# Altium schematic symbol library pporyzala-TI_Lighting.SchLib: 745 symbols (part 2 of 48)
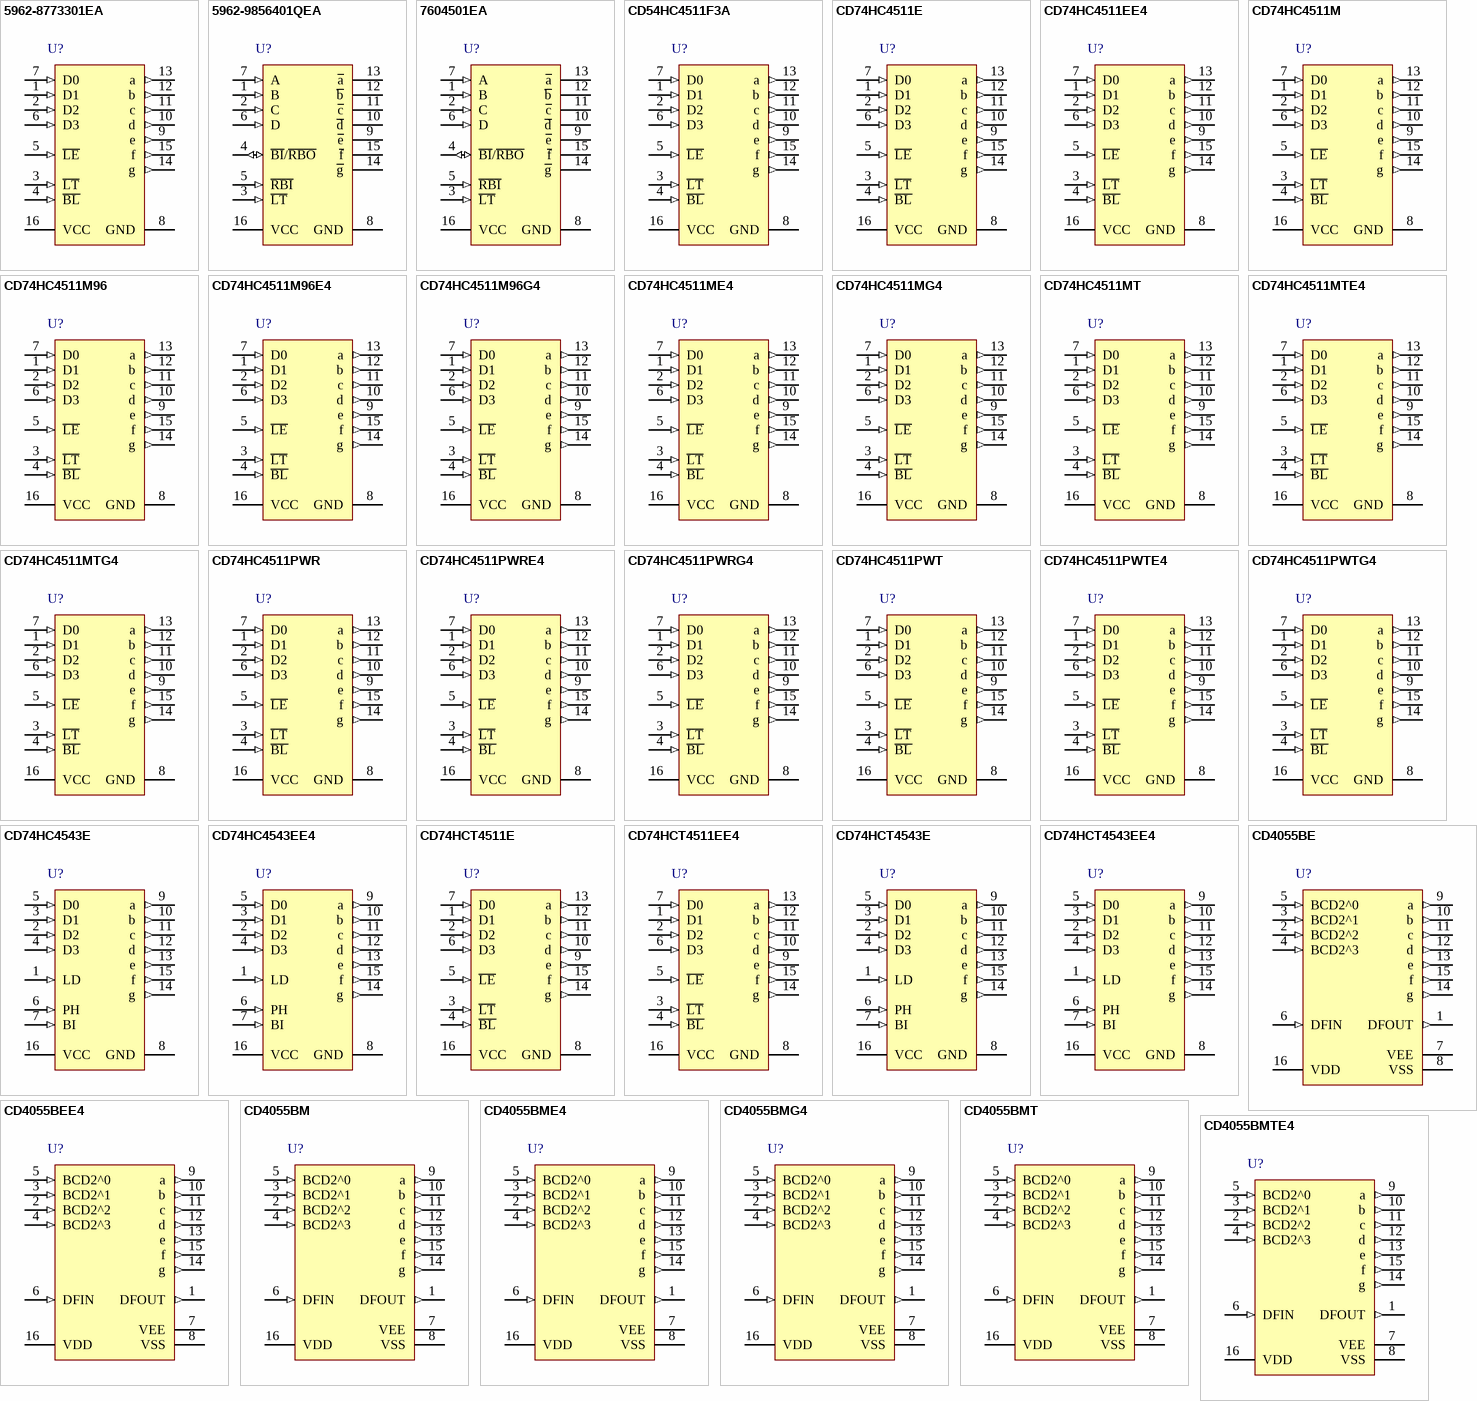
[diagram p32: symbols 5962-8773301EA to CD4055BMTE4]

## CD4055BMTE4
designator U?
CMOS BCD-to-7-Segment LCD Decoder/Driver with Display-Frequency Output, 3 to 18 V, -55 to 125 degC, 16-pin SOIC (D16), Green (RoHS & no Sb/Br); Manufacturer: Texas Instruments; PartNumber: CD4055BMTE4; Rating: Catalog; SubFamily: Discrete Segment LED Driver; Vin(Max)(V): 18; Vin(Min)(V): 3; DatasheetVersion: SCHS048C; PackageVersion: 4040047-6/M; PackageReference: D16; PackageDescription: 16-Pin Plastic Small Outline, Body 9.90 x 3.90 mm, Pitch 1.27 mm; Supplier 1: Digi-Key; Supplier Part Number 1: CD4055BMTE4-ND; Supplier 2: Mouser; Supplier Part Number 2: 595-CD4055BMTE4; Eco-Plan: Green (RoHS & no Sb/Br); Mounting Technology: Surface Mount; Code_JEDEC: MS-012; ComponentLink1Description: Manufacturer URL; ComponentLink1URL: http://www.ti.com/; ComponentLink2Description: Datasheet; ComponentLink2URL: http://www.ti.com/general/docs/lit/getliterature.tsp?genericPartNumber=CD4055B&fileType=pdf; ComponentLink3Description: Package Specification; ComponentLink3URL: http://www.ti.com/litv/pdf/mpds178g
footprint TI-D16_N (SOIC, 16-Leads, Body 9.9x3.9mm, Pitch 1.27mm, IPC Medium Density)
footprint TI-D16_L (SOIC, 16-Leads, Body 9.9x3.9mm, Pitch 1.27mm, IPC High Density)
footprint TI-D16_M (SOIC, 16-Leads, Body 9.9x3.9mm, Pitch 1.27mm, IPC Low Density)
pins: 1 DFOUT (out), 2 BCD2^2 (in), 3 BCD2^1 (in), 4 BCD2^3 (in), 5 BCD2^0 (in), 6 DFIN (in), 7 VEE (power), 8 VSS (power), 9 a (out), 10 b (out), 11 c (out), 12 d (out), 13 e (out), 14 g (out), 15 f (out), 16 VDD (power)

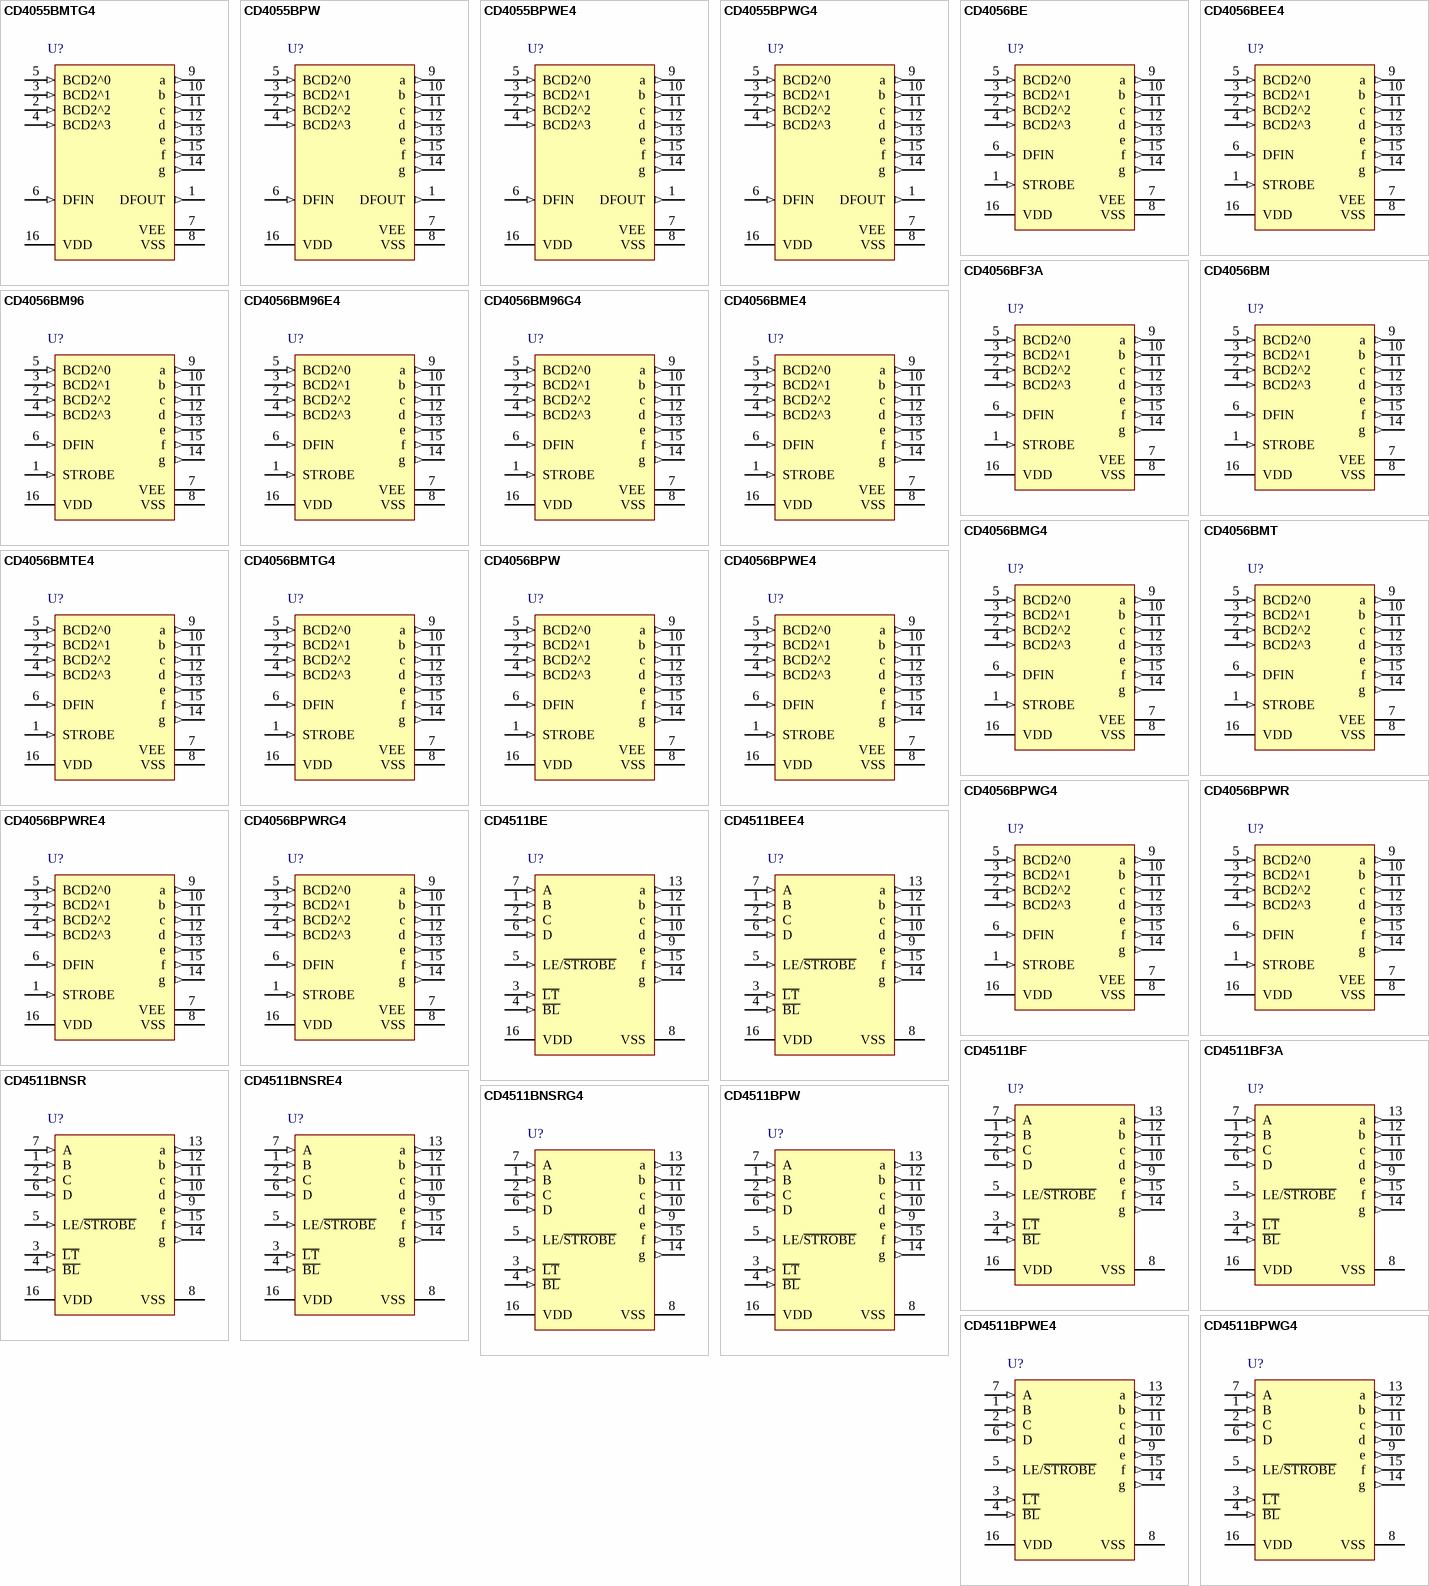
[diagram p1: symbols CD4055BMTG4 to CD4511BPWG4]

## CD4055BMTG4
designator U?
CMOS BCD-to-7-Segment LCD Decoder / Driver with Display-Frequency Output, 3 to 18 V, -55 to 125 degC, 16-pin SOIC (D16), Green (RoHS & no Sb/Br); Manufacturer: Texas Instruments; PartNumber: CD4055BMTG4; Rating: Catalog; SubFamily: Discrete Segment LED Driver; Vin(Max)(V): 18; Vin(Min)(V): 3; DatasheetVersion: SCHS048C; PackageVersion: 4040047-6/M; PackageReference: D16; PackageDescription: 16-Pin Plastic Small Outline, Body 9.90 x 3.90 mm, Pitch 1.27 mm; Supplier 1: Digi-Key; Supplier Part Number 1: CD4055BMTG4-ND; Supplier 2: Mouser; Supplier Part Number 2: 595-CD4055BMTG4; Eco-Plan: Green (RoHS & no Sb/Br); Mounting Technology: Surface Mount; Code_JEDEC: MS-012; ComponentLink1Description: Manufacturer URL; ComponentLink1URL: http://www.ti.com/; ComponentLink2Description: Datasheet; ComponentLink2URL: http://www.ti.com/general/docs/lit/getliterature.tsp?genericPartNumber=CD4055B&fileType=pdf; ComponentLink3Description: Package Specification; ComponentLink3URL: http://www.ti.com/litv/pdf/mpds178g
footprint TI-D16_N (SOIC, 16-Leads, Body 9.9x3.9mm, Pitch 1.27mm, IPC Medium Density)
footprint TI-D16_L (SOIC, 16-Leads, Body 9.9x3.9mm, Pitch 1.27mm, IPC High Density)
footprint TI-D16_M (SOIC, 16-Leads, Body 9.9x3.9mm, Pitch 1.27mm, IPC Low Density)
pins: 1 DFOUT (out), 2 BCD2^2 (in), 3 BCD2^1 (in), 4 BCD2^3 (in), 5 BCD2^0 (in), 6 DFIN (in), 7 VEE (power), 8 VSS (power), 9 a (out), 10 b (out), 11 c (out), 12 d (out), 13 e (out), 14 g (out), 15 f (out), 16 VDD (power)

## CD4055BPW
designator U?
CMOS BCD-to-7-Segment LCD Decoder / Driver with Display-Frequency Output, 3 to 18 V, -55 to 125 degC, 16-pin SOP (PW16), Green (RoHS & no Sb/Br); Manufacturer: Texas Instruments; PartNumber: CD4055BPW; Rating: Catalog; SubFamily: Discrete Segment LED Driver; Vin(Max)(V): 18; Vin(Min)(V): 3; DatasheetVersion: SCHS048C; PackageVersion: 4040064-4/G; PackageReference: PW16; PackageDescription: 16-Pin Plastic Small Outline, Body 4.40 x 5.00 mm, Pitch 0.65 mm; Supplier 1: Digi-Key; Supplier Part Number 1: 296-32899-5-ND; Supplier 2: Farnell; Supplier Part Number 2: 1753425; Supplier 3: Mouser; Supplier Part Number 3: 595-CD4055BPW; Eco-Plan: Green (RoHS & no Sb/Br); Mounting Technology: Surface Mount; Code_JEDEC: MO-153; ComponentLink1Description: Manufacturer URL; ComponentLink1URL: http://www.ti.com/; ComponentLink2Description: Datasheet; ComponentLink2URL: http://www.ti.com/general/docs/lit/getliterature.tsp?genericPartNumber=CD4055B&fileType=pdf; ComponentLink3Description: Package Specification; ComponentLink3URL: http://www.ti.com/lit/ml/mpds361/mpds361.pdf
footprint TI-PW16_N (SOP, 16-Leads, Body 5x4.4mm, Pitch 0.65mm, IPC Medium Density)
footprint TI-PW16_L (SOP, 16-Leads, Body 5x4.4mm, Pitch 0.65mm, IPC High Density)
footprint TI-PW16_M (SOP, 16-Leads, Body 5x4.4mm, Pitch 0.65mm, IPC Low Density)
pins: 1 DFOUT (out), 2 BCD2^2 (in), 3 BCD2^1 (in), 4 BCD2^3 (in), 5 BCD2^0 (in), 6 DFIN (in), 7 VEE (power), 8 VSS (power), 9 a (out), 10 b (out), 11 c (out), 12 d (out), 13 e (out), 14 g (out), 15 f (out), 16 VDD (power)

## CD4055BPWE4
designator U?
CMOS BCD-to-7-Segment LCD Decoder / Driver with Display-Frequency Output, 3 to 18 V, -55 to 125 degC, 16-pin SOP (PW16), Green (RoHS & no Sb/Br); Manufacturer: Texas Instruments; PartNumber: CD4055BPWE4; Rating: Catalog; SubFamily: Discrete Segment LED Driver; Vin(Max)(V): 18; Vin(Min)(V): 3; DatasheetVersion: SCHS048C; PackageVersion: 4040064-4/G; PackageReference: PW16; PackageDescription: 16-Pin Plastic Small Outline, Body 4.40 x 5.00 mm, Pitch 0.65 mm; Supplier 1: Digi-Key; Supplier Part Number 1: CD4055BPWE4-ND; Supplier 2: Newark; Supplier Part Number 2: 33K4916; Supplier 3: Mouser; Supplier Part Number 3: 595-CD4055BPWE4; Eco-Plan: Green (RoHS & no Sb/Br); Mounting Technology: Surface Mount; Code_JEDEC: MO-153; ComponentLink1Description: Manufacturer URL; ComponentLink1URL: http://www.ti.com/; ComponentLink2Description: Datasheet; ComponentLink2URL: http://www.ti.com/general/docs/lit/getliterature.tsp?genericPartNumber=CD4055B&fileType=pdf; ComponentLink3Description: Package Specification; ComponentLink3URL: http://www.ti.com/lit/ml/mpds361/mpds361.pdf
footprint TI-PW16_N (SOP, 16-Leads, Body 5x4.4mm, Pitch 0.65mm, IPC Medium Density)
footprint TI-PW16_L (SOP, 16-Leads, Body 5x4.4mm, Pitch 0.65mm, IPC High Density)
footprint TI-PW16_M (SOP, 16-Leads, Body 5x4.4mm, Pitch 0.65mm, IPC Low Density)
pins: 1 DFOUT (out), 2 BCD2^2 (in), 3 BCD2^1 (in), 4 BCD2^3 (in), 5 BCD2^0 (in), 6 DFIN (in), 7 VEE (power), 8 VSS (power), 9 a (out), 10 b (out), 11 c (out), 12 d (out), 13 e (out), 14 g (out), 15 f (out), 16 VDD (power)

## CD4055BPWG4
designator U?
CMOS BCD-to-7-Segment LCD Decoder / Driver with Display-Frequency Output, 3 to 18 V, -55 to 125 degC, 16-pin SOP (PW16), Green (RoHS & no Sb/Br); Manufacturer: Texas Instruments; PartNumber: CD4055BPWG4; Rating: Catalog; SubFamily: Discrete Segment LED Driver; Vin(Max)(V): 18; Vin(Min)(V): 3; DatasheetVersion: SCHS048C; PackageVersion: 4040064-4/G; PackageReference: PW16; PackageDescription: 16-Pin Plastic Small Outline, Body 4.40 x 5.00 mm, Pitch 0.65 mm; Supplier 1: Digi-Key; Supplier Part Number 1: CD4055BPWG4-ND; Supplier 2: Newark; Supplier Part Number 2: 46M6153; Supplier 3: Mouser; Supplier Part Number 3: 595-CD4055BPWG4; Eco-Plan: Green (RoHS & no Sb/Br); Mounting Technology: Surface Mount; Code_JEDEC: MO-153; ComponentLink1Description: Manufacturer URL; ComponentLink1URL: http://www.ti.com/; ComponentLink2Description: Datasheet; ComponentLink2URL: http://www.ti.com/general/docs/lit/getliterature.tsp?genericPartNumber=CD4055B&fileType=pdf; ComponentLink3Description: Package Specification; ComponentLink3URL: http://www.ti.com/lit/ml/mpds361/mpds361.pdf
footprint TI-PW16_N (SOP, 16-Leads, Body 5x4.4mm, Pitch 0.65mm, IPC Medium Density)
footprint TI-PW16_L (SOP, 16-Leads, Body 5x4.4mm, Pitch 0.65mm, IPC High Density)
footprint TI-PW16_M (SOP, 16-Leads, Body 5x4.4mm, Pitch 0.65mm, IPC Low Density)
pins: 1 DFOUT (out), 2 BCD2^2 (in), 3 BCD2^1 (in), 4 BCD2^3 (in), 5 BCD2^0 (in), 6 DFIN (in), 7 VEE (power), 8 VSS (power), 9 a (out), 10 b (out), 11 c (out), 12 d (out), 13 e (out), 14 g (out), 15 f (out), 16 VDD (power)

## CD4056BE
designator U?
CMOS BCD-to 7-Segment LCD Decoder / Driver with Strobed-Latch Function, 3 to 18 V, -55 to 125 degC, 16-pin DIP (N16), Pb-Free (RoHS); Manufacturer: Texas Instruments; PartNumber: CD4056BE; Rating: Catalog; SubFamily: Discrete Segment LED Driver; Vin(Max)(V): 18; Vin(Min)(V): 3; DatasheetVersion: SCHS048C; PackageVersion: 4040049/E; PackageReference: N16; PackageDescription: 16-Pin Plastic In-Line, Body 19.305 x 6.35 mm, Pitch 2.54 mm; Supplier 1: Digi-Key; Supplier Part Number 1: 296-14118-5-ND; Supplier 2: Farnell; Supplier Part Number 2: 1739795; Supplier 3: Newark; Supplier Part Number 3: 67K0081; Supplier 4: Mouser; Supplier Part Number 4: 595-CD4056BE; Eco-Plan: Pb-Free (RoHS); Mounting Technology: Through Hole; Code_JEDEC: MS-001; ComponentLink1Description: Manufacturer URL; ComponentLink1URL: http://www.ti.com/; ComponentLink2Description: Datasheet; ComponentLink2URL: http://www.ti.com/general/docs/lit/getliterature.tsp?genericPartNumber=CD4056B&fileType=pdf; ComponentLink3Description: Package Specification; ComponentLink3URL: http://www.ti.com/litv/pdf/mpdi002c
footprint TI-N16 (DIP, 16-Leads, Body 19.305x6.35 mm, Pitch 2.54 mm)
pins: 1 STROBE (in), 2 BCD2^2 (in), 3 BCD2^1 (in), 4 BCD2^3 (in), 5 BCD2^0 (in), 6 DFIN (in), 7 VEE (power), 8 VSS (power), 9 a (out), 10 b (out), 11 c (out), 12 d (out), 13 e (out), 14 g (out), 15 f (out), 16 VDD (power)

## CD4056BEE4
designator U?
CMOS BCD-to 7-Segment LCD Decoder / Driver with Strobed-Latch Function, 3 to 18 V, -55 to 125 degC, 16-pin DIP (N16), Pb-Free (RoHS); Manufacturer: Texas Instruments; PartNumber: CD4056BEE4; Rating: Catalog; SubFamily: Discrete Segment LED Driver; Vin(Max)(V): 18; Vin(Min)(V): 3; DatasheetVersion: SCHS048C; PackageVersion: 4040049/E; PackageReference: N16; PackageDescription: 16-Pin Plastic In-Line, Body 19.305 x 6.35 mm, Pitch 2.54 mm; Supplier 1: Digi-Key; Supplier Part Number 1: CD4056BEE4-ND; Supplier 2: Newark; Supplier Part Number 2: 36K8720; Supplier 3: Mouser; Supplier Part Number 3: 595-CD4056BEE4; Eco-Plan: Pb-Free (RoHS); Mounting Technology: Through Hole; Code_JEDEC: MS-001; ComponentLink1Description: Manufacturer URL; ComponentLink1URL: http://www.ti.com/; ComponentLink2Description: Datasheet; ComponentLink2URL: http://www.ti.com/general/docs/lit/getliterature.tsp?genericPartNumber=CD4056B&fileType=pdf; ComponentLink3Description: Package Specification; ComponentLink3URL: http://www.ti.com/litv/pdf/mpdi002c
footprint TI-N16 (DIP, 16-Leads, Body 19.305x6.35 mm, Pitch 2.54 mm)
pins: 1 STROBE (in), 2 BCD2^2 (in), 3 BCD2^1 (in), 4 BCD2^3 (in), 5 BCD2^0 (in), 6 DFIN (in), 7 VEE (power), 8 VSS (power), 9 a (out), 10 b (out), 11 c (out), 12 d (out), 13 e (out), 14 g (out), 15 f (out), 16 VDD (power)

## CD4056BF3A
designator U?
CMOS BCD-to 7-Segment LCD Decoder / Driver with Strobed-Latch Function, 3 to 18 V, -55 to 125 degC, 16-pin DIP (J16); Manufacturer: Texas Instruments; PartNumber: CD4056BF3A; Rating: Military; SubFamily: Discrete Segment LED Driver; Vin(Max)(V): 18; Vin(Min)(V): 3; DatasheetVersion: SCHS048C; PackageVersion: 4040083/F; PackageReference: J16; PackageDescription: 16-pin, Ceramic, Glass In-Line, Row Spacing 7.62 mm, Pitch 2.54 mm; Mounting Technology: Through Hole; ComponentLink1Description: Manufacturer URL; ComponentLink1URL: http://www.ti.com/; ComponentLink2Description: Datasheet; ComponentLink2URL: http://www.ti.com/general/docs/lit/getliterature.tsp?genericPartNumber=CD4056B-MIL&fileType=pdf; ComponentLink3Description: Package Specification; ComponentLink3URL: http://www.ti.com/lit/ds/symlink/uc1543.pdf
footprint TI-J16 (DIP, 16-Leads, Body 21.34x6.92 mm, Pitch 2.54 mm)
pins: 1 STROBE (in), 2 BCD2^2 (in), 3 BCD2^1 (in), 4 BCD2^3 (in), 5 BCD2^0 (in), 6 DFIN (in), 7 VEE (power), 8 VSS (power), 9 a (out), 10 b (out), 11 c (out), 12 d (out), 13 e (out), 14 g (out), 15 f (out), 16 VDD (power)

## CD4056BM
designator U?
CMOS BCD-to 7-Segment LCD Decoder / Driver with Strobed-Latch Function, 3 to 18 V, -55 to 125 degC, 16-pin SOIC (D16), Green (RoHS & no Sb/Br); Manufacturer: Texas Instruments; PartNumber: CD4056BM; Rating: Catalog; SubFamily: Discrete Segment LED Driver; Vin(Max)(V): 18; Vin(Min)(V): 3; DatasheetVersion: SCHS048C; PackageVersion: 4040047-6/M; PackageReference: D16; PackageDescription: 16-Pin Plastic Small Outline, Body 9.90 x 3.90 mm, Pitch 1.27 mm; Supplier 1: Digi-Key; Supplier Part Number 1: 296-32900-5-ND; Supplier 2: Farnell; Supplier Part Number 2: 1741276; Supplier 3: Newark; Supplier Part Number 3: 50R5071; Supplier 4: Newark; Supplier Part Number 4: 61H4994; Supplier 5: Mouser; Supplier Part Number 5: 595-CD4056BM; Eco-Plan: Green (RoHS & no Sb/Br); Mounting Technology: Surface Mount; Code_JEDEC: MS-012; ComponentLink1Description: Manufacturer URL; ComponentLink1URL: http://www.ti.com/; ComponentLink2Description: Datasheet; ComponentLink2URL: http://www.ti.com/general/docs/lit/getliterature.tsp?genericPartNumber=CD4056B&fileType=pdf; ComponentLink3Description: Package Specification; ComponentLink3URL: http://www.ti.com/litv/pdf/mpds178g
footprint TI-D16_N (SOIC, 16-Leads, Body 9.9x3.9mm, Pitch 1.27mm, IPC Medium Density)
footprint TI-D16_L (SOIC, 16-Leads, Body 9.9x3.9mm, Pitch 1.27mm, IPC High Density)
footprint TI-D16_M (SOIC, 16-Leads, Body 9.9x3.9mm, Pitch 1.27mm, IPC Low Density)
pins: 1 STROBE (in), 2 BCD2^2 (in), 3 BCD2^1 (in), 4 BCD2^3 (in), 5 BCD2^0 (in), 6 DFIN (in), 7 VEE (power), 8 VSS (power), 9 a (out), 10 b (out), 11 c (out), 12 d (out), 13 e (out), 14 g (out), 15 f (out), 16 VDD (power)

## CD4056BM96
designator U?
CMOS BCD-to 7-Segment LCD Decoder / Driver with Strobed-Latch Function, 3 to 18 V, -55 to 125 degC, 16-pin SOIC (D16), Green (RoHS & no Sb/Br); Manufacturer: Texas Instruments; PartNumber: CD4056BM96; Rating: Catalog; SubFamily: Discrete Segment LED Driver; Vin(Max)(V): 18; Vin(Min)(V): 3; DatasheetVersion: SCHS048C; PackageVersion: 4040047-6/M; PackageReference: D16; PackageDescription: 16-Pin Plastic Small Outline, Body 9.90 x 3.90 mm, Pitch 1.27 mm; Supplier 1: Digi-Key; Supplier Part Number 1: 296-31512-2-ND; Supplier 2: Digi-Key; Supplier Part Number 2: 296-31512-1-ND; Supplier 3: Digi-Key; Supplier Part Number 3: 296-31512-6-ND; Supplier 4: Newark; Supplier Part Number 4: 61H4995; Supplier 5: Mouser; Supplier Part Number 5: 595-CD4056BM96; Eco-Plan: Green (RoHS & no Sb/Br); Mounting Technology: Surface Mount; Code_JEDEC: MS-012; ComponentLink1Description: Manufacturer URL; ComponentLink1URL: http://www.ti.com/; ComponentLink2Description: Datasheet; ComponentLink2URL: http://www.ti.com/general/docs/lit/getliterature.tsp?genericPartNumber=CD4056B&fileType=pdf; ComponentLink3Description: Package Specification; ComponentLink3URL: http://www.ti.com/litv/pdf/mpds178g
footprint TI-D16_N (SOIC, 16-Leads, Body 9.9x3.9mm, Pitch 1.27mm, IPC Medium Density)
footprint TI-D16_L (SOIC, 16-Leads, Body 9.9x3.9mm, Pitch 1.27mm, IPC High Density)
footprint TI-D16_M (SOIC, 16-Leads, Body 9.9x3.9mm, Pitch 1.27mm, IPC Low Density)
pins: 1 STROBE (in), 2 BCD2^2 (in), 3 BCD2^1 (in), 4 BCD2^3 (in), 5 BCD2^0 (in), 6 DFIN (in), 7 VEE (power), 8 VSS (power), 9 a (out), 10 b (out), 11 c (out), 12 d (out), 13 e (out), 14 g (out), 15 f (out), 16 VDD (power)

## CD4056BM96E4
designator U?
CMOS BCD-to 7-Segment LCD Decoder / Driver with Strobed-Latch Function, 3 to 18 V, -55 to 125 degC, 16-pin SOIC (D16), Green (RoHS & no Sb/Br); Manufacturer: Texas Instruments; PartNumber: CD4056BM96E4; Rating: Catalog; SubFamily: Discrete Segment LED Driver; Vin(Max)(V): 18; Vin(Min)(V): 3; DatasheetVersion: SCHS048C; PackageVersion: 4040047-6/M; PackageReference: D16; PackageDescription: 16-Pin Plastic Small Outline, Body 9.90 x 3.90 mm, Pitch 1.27 mm; Supplier 1: Digi-Key; Supplier Part Number 1: CD4056BM96E4-ND; Supplier 2: Newark; Supplier Part Number 2: 36K8723; Supplier 3: Mouser; Supplier Part Number 3: 595-CD4056BM96E4; Eco-Plan: Green (RoHS & no Sb/Br); Mounting Technology: Surface Mount; Code_JEDEC: MS-012; ComponentLink1Description: Manufacturer URL; ComponentLink1URL: http://www.ti.com/; ComponentLink2Description: Datasheet; ComponentLink2URL: http://www.ti.com/general/docs/lit/getliterature.tsp?genericPartNumber=CD4056B&fileType=pdf; ComponentLink3Description: Package Specification; ComponentLink3URL: http://www.ti.com/litv/pdf/mpds178g
footprint TI-D16_N (SOIC, 16-Leads, Body 9.9x3.9mm, Pitch 1.27mm, IPC Medium Density)
footprint TI-D16_L (SOIC, 16-Leads, Body 9.9x3.9mm, Pitch 1.27mm, IPC High Density)
footprint TI-D16_M (SOIC, 16-Leads, Body 9.9x3.9mm, Pitch 1.27mm, IPC Low Density)
pins: 1 STROBE (in), 2 BCD2^2 (in), 3 BCD2^1 (in), 4 BCD2^3 (in), 5 BCD2^0 (in), 6 DFIN (in), 7 VEE (power), 8 VSS (power), 9 a (out), 10 b (out), 11 c (out), 12 d (out), 13 e (out), 14 g (out), 15 f (out), 16 VDD (power)

## CD4056BM96G4
designator U?
CMOS BCD-to 7-Segment LCD Decoder / Driver with Strobed-Latch Function, 3 to 18 V, -55 to 125 degC, 16-pin SOIC (D16), Green (RoHS & no Sb/Br); Manufacturer: Texas Instruments; PartNumber: CD4056BM96G4; Rating: Catalog; SubFamily: Discrete Segment LED Driver; Vin(Max)(V): 18; Vin(Min)(V): 3; DatasheetVersion: SCHS048C; PackageVersion: 4040047-6/M; PackageReference: D16; PackageDescription: 16-Pin Plastic Small Outline, Body 9.90 x 3.90 mm, Pitch 1.27 mm; Supplier 1: Digi-Key; Supplier Part Number 1: CD4056BM96G4-ND; Supplier 2: Newark; Supplier Part Number 2: 41M2473; Supplier 3: Mouser; Supplier Part Number 3: 595-CD4056BM96G4; Eco-Plan: Green (RoHS & no Sb/Br); Mounting Technology: Surface Mount; Code_JEDEC: MS-012; ComponentLink1Description: Manufacturer URL; ComponentLink1URL: http://www.ti.com/; ComponentLink2Description: Datasheet; ComponentLink2URL: http://www.ti.com/general/docs/lit/getliterature.tsp?genericPartNumber=CD4056B&fileType=pdf; ComponentLink3Description: Package Specification; ComponentLink3URL: http://www.ti.com/litv/pdf/mpds178g
footprint TI-D16_N (SOIC, 16-Leads, Body 9.9x3.9mm, Pitch 1.27mm, IPC Medium Density)
footprint TI-D16_L (SOIC, 16-Leads, Body 9.9x3.9mm, Pitch 1.27mm, IPC High Density)
footprint TI-D16_M (SOIC, 16-Leads, Body 9.9x3.9mm, Pitch 1.27mm, IPC Low Density)
pins: 1 STROBE (in), 2 BCD2^2 (in), 3 BCD2^1 (in), 4 BCD2^3 (in), 5 BCD2^0 (in), 6 DFIN (in), 7 VEE (power), 8 VSS (power), 9 a (out), 10 b (out), 11 c (out), 12 d (out), 13 e (out), 14 g (out), 15 f (out), 16 VDD (power)

## CD4056BME4
designator U?
CMOS BCD-to 7-Segment LCD Decoder / Driver with Strobed-Latch Function, 3 to 18 V, -55 to 125 degC, 16-pin SOIC (D16), Green (RoHS & no Sb/Br); Manufacturer: Texas Instruments; PartNumber: CD4056BME4; Rating: Catalog; SubFamily: Discrete Segment LED Driver; Vin(Max)(V): 18; Vin(Min)(V): 3; DatasheetVersion: SCHS048C; PackageVersion: 4040047-6/M; PackageReference: D16; PackageDescription: 16-Pin Plastic Small Outline, Body 9.90 x 3.90 mm, Pitch 1.27 mm; Supplier 1: Digi-Key; Supplier Part Number 1: CD4056BME4-ND; Supplier 2: Newark; Supplier Part Number 2: 36K8721; Supplier 3: Mouser; Supplier Part Number 3: 595-CD4056BME4; Eco-Plan: Green (RoHS & no Sb/Br); Mounting Technology: Surface Mount; Code_JEDEC: MS-012; ComponentLink1Description: Manufacturer URL; ComponentLink1URL: http://www.ti.com/; ComponentLink2Description: Datasheet; ComponentLink2URL: http://www.ti.com/general/docs/lit/getliterature.tsp?genericPartNumber=CD4056B&fileType=pdf; ComponentLink3Description: Package Specification; ComponentLink3URL: http://www.ti.com/litv/pdf/mpds178g
footprint TI-D16_N (SOIC, 16-Leads, Body 9.9x3.9mm, Pitch 1.27mm, IPC Medium Density)
footprint TI-D16_L (SOIC, 16-Leads, Body 9.9x3.9mm, Pitch 1.27mm, IPC High Density)
footprint TI-D16_M (SOIC, 16-Leads, Body 9.9x3.9mm, Pitch 1.27mm, IPC Low Density)
pins: 1 STROBE (in), 2 BCD2^2 (in), 3 BCD2^1 (in), 4 BCD2^3 (in), 5 BCD2^0 (in), 6 DFIN (in), 7 VEE (power), 8 VSS (power), 9 a (out), 10 b (out), 11 c (out), 12 d (out), 13 e (out), 14 g (out), 15 f (out), 16 VDD (power)

## CD4056BMG4
designator U?
CMOS BCD-to 7-Segment LCD Decoder / Driver with Strobed-Latch Function, 3 to 18 V, -55 to 125 degC, 16-pin SOIC (D16), Green (RoHS & no Sb/Br); Manufacturer: Texas Instruments; PartNumber: CD4056BMG4; Rating: Catalog; SubFamily: Discrete Segment LED Driver; Vin(Max)(V): 18; Vin(Min)(V): 3; DatasheetVersion: SCHS048C; PackageVersion: 4040047-6/M; PackageReference: D16; PackageDescription: 16-Pin Plastic Small Outline, Body 9.90 x 3.90 mm, Pitch 1.27 mm; Supplier 1: Digi-Key; Supplier Part Number 1: CD4056BMG4-ND; Supplier 2: Newark; Supplier Part Number 2: 41M2471; Supplier 3: Mouser; Supplier Part Number 3: 595-CD4056BMG4; Eco-Plan: Green (RoHS & no Sb/Br); Mounting Technology: Surface Mount; Code_JEDEC: MS-012; ComponentLink1Description: Manufacturer URL; ComponentLink1URL: http://www.ti.com/; ComponentLink2Description: Datasheet; ComponentLink2URL: http://www.ti.com/general/docs/lit/getliterature.tsp?genericPartNumber=CD4056B&fileType=pdf; ComponentLink3Description: Package Specification; ComponentLink3URL: http://www.ti.com/litv/pdf/mpds178g
footprint TI-D16_N (SOIC, 16-Leads, Body 9.9x3.9mm, Pitch 1.27mm, IPC Medium Density)
footprint TI-D16_L (SOIC, 16-Leads, Body 9.9x3.9mm, Pitch 1.27mm, IPC High Density)
footprint TI-D16_M (SOIC, 16-Leads, Body 9.9x3.9mm, Pitch 1.27mm, IPC Low Density)
pins: 1 STROBE (in), 2 BCD2^2 (in), 3 BCD2^1 (in), 4 BCD2^3 (in), 5 BCD2^0 (in), 6 DFIN (in), 7 VEE (power), 8 VSS (power), 9 a (out), 10 b (out), 11 c (out), 12 d (out), 13 e (out), 14 g (out), 15 f (out), 16 VDD (power)

## CD4056BMT
designator U?
CMOS BCD-to 7-Segment LCD Decoder / Driver with Strobed-Latch Function, 3 to 18 V, -55 to 125 degC, 16-pin SOIC (D16), Green (RoHS & no Sb/Br); Manufacturer: Texas Instruments; PartNumber: CD4056BMT; Rating: Catalog; SubFamily: Discrete Segment LED Driver; Vin(Max)(V): 18; Vin(Min)(V): 3; DatasheetVersion: SCHS048C; PackageVersion: 4040047-6/M; PackageReference: D16; PackageDescription: 16-Pin Plastic Small Outline, Body 9.90 x 3.90 mm, Pitch 1.27 mm; Supplier 1: Digi-Key; Supplier Part Number 1: CD4056BMT-ND; Supplier 2: Farnell; Supplier Part Number 2: 1753167RL; Supplier 3: Farnell; Supplier Part Number 3: 1753167; Supplier 4: Mouser; Supplier Part Number 4: 595-CD4056BMT; Eco-Plan: Green (RoHS & no Sb/Br); Mounting Technology: Surface Mount; Code_JEDEC: MS-012; ComponentLink1Description: Manufacturer URL; ComponentLink1URL: http://www.ti.com/; ComponentLink2Description: Datasheet; ComponentLink2URL: http://www.ti.com/general/docs/lit/getliterature.tsp?genericPartNumber=CD4056B&fileType=pdf; ComponentLink3Description: Package Specification; ComponentLink3URL: http://www.ti.com/litv/pdf/mpds178g
footprint TI-D16_N (SOIC, 16-Leads, Body 9.9x3.9mm, Pitch 1.27mm, IPC Medium Density)
footprint TI-D16_L (SOIC, 16-Leads, Body 9.9x3.9mm, Pitch 1.27mm, IPC High Density)
footprint TI-D16_M (SOIC, 16-Leads, Body 9.9x3.9mm, Pitch 1.27mm, IPC Low Density)
pins: 1 STROBE (in), 2 BCD2^2 (in), 3 BCD2^1 (in), 4 BCD2^3 (in), 5 BCD2^0 (in), 6 DFIN (in), 7 VEE (power), 8 VSS (power), 9 a (out), 10 b (out), 11 c (out), 12 d (out), 13 e (out), 14 g (out), 15 f (out), 16 VDD (power)

## CD4056BMTE4
designator U?
CMOS BCD-to 7-Segment LCD Decoder / Driver with Strobed-Latch Function, 3 to 18 V, -55 to 125 degC, 16-pin SOIC (D16), Green (RoHS & no Sb/Br); Manufacturer: Texas Instruments; PartNumber: CD4056BMTE4; Rating: Catalog; SubFamily: Discrete Segment LED Driver; Vin(Max)(V): 18; Vin(Min)(V): 3; DatasheetVersion: SCHS048C; PackageVersion: 4040047-6/M; PackageReference: D16; PackageDescription: 16-Pin Plastic Small Outline, Body 9.90 x 3.90 mm, Pitch 1.27 mm; Supplier 1: Digi-Key; Supplier Part Number 1: CD4056BMTE4-ND; Supplier 2: Mouser; Supplier Part Number 2: 595-CD4056BMTE4; Eco-Plan: Green (RoHS & no Sb/Br); Mounting Technology: Surface Mount; Code_JEDEC: MS-012; ComponentLink1Description: Manufacturer URL; ComponentLink1URL: http://www.ti.com/; ComponentLink2Description: Datasheet; ComponentLink2URL: http://www.ti.com/general/docs/lit/getliterature.tsp?genericPartNumber=CD4056B&fileType=pdf; ComponentLink3Description: Package Specification; ComponentLink3URL: http://www.ti.com/litv/pdf/mpds178g
footprint TI-D16_N (SOIC, 16-Leads, Body 9.9x3.9mm, Pitch 1.27mm, IPC Medium Density)
footprint TI-D16_L (SOIC, 16-Leads, Body 9.9x3.9mm, Pitch 1.27mm, IPC High Density)
footprint TI-D16_M (SOIC, 16-Leads, Body 9.9x3.9mm, Pitch 1.27mm, IPC Low Density)
pins: 1 STROBE (in), 2 BCD2^2 (in), 3 BCD2^1 (in), 4 BCD2^3 (in), 5 BCD2^0 (in), 6 DFIN (in), 7 VEE (power), 8 VSS (power), 9 a (out), 10 b (out), 11 c (out), 12 d (out), 13 e (out), 14 g (out), 15 f (out), 16 VDD (power)

## CD4056BMTG4
designator U?
CMOS BCD-to 7-Segment LCD Decoder / Driver with Strobed-Latch Function, 3 to 18 V, -55 to 125 degC, 16-pin SOIC (D16), Green (RoHS & no Sb/Br); Manufacturer: Texas Instruments; PartNumber: CD4056BMTG4; Rating: Catalog; SubFamily: Discrete Segment LED Driver; Vin(Max)(V): 18; Vin(Min)(V): 3; DatasheetVersion: SCHS048C; PackageVersion: 4040047-6/M; PackageReference: D16; PackageDescription: 16-Pin Plastic Small Outline, Body 9.90 x 3.90 mm, Pitch 1.27 mm; Supplier 1: Digi-Key; Supplier Part Number 1: CD4056BMTG4-ND; Supplier 2: Mouser; Supplier Part Number 2: 595-CD4056BMTG4; Eco-Plan: Green (RoHS & no Sb/Br); Mounting Technology: Surface Mount; Code_JEDEC: MS-012; ComponentLink1Description: Manufacturer URL; ComponentLink1URL: http://www.ti.com/; ComponentLink2Description: Datasheet; ComponentLink2URL: http://www.ti.com/general/docs/lit/getliterature.tsp?genericPartNumber=CD4056B&fileType=pdf; ComponentLink3Description: Package Specification; ComponentLink3URL: http://www.ti.com/litv/pdf/mpds178g
footprint TI-D16_N (SOIC, 16-Leads, Body 9.9x3.9mm, Pitch 1.27mm, IPC Medium Density)
footprint TI-D16_L (SOIC, 16-Leads, Body 9.9x3.9mm, Pitch 1.27mm, IPC High Density)
footprint TI-D16_M (SOIC, 16-Leads, Body 9.9x3.9mm, Pitch 1.27mm, IPC Low Density)
pins: 1 STROBE (in), 2 BCD2^2 (in), 3 BCD2^1 (in), 4 BCD2^3 (in), 5 BCD2^0 (in), 6 DFIN (in), 7 VEE (power), 8 VSS (power), 9 a (out), 10 b (out), 11 c (out), 12 d (out), 13 e (out), 14 g (out), 15 f (out), 16 VDD (power)

## CD4056BPW
designator U?
CMOS BCD-to 7-Segment LCD Decoder / Driver with Strobed-Latch Function, 3 to 18 V, -55 to 125 degC, 16-pin SOP (PW16), Green (RoHS & no Sb/Br); Manufacturer: Texas Instruments; PartNumber: CD4056BPW; Rating: Catalog; SubFamily: Discrete Segment LED Driver; Vin(Max)(V): 18; Vin(Min)(V): 3; DatasheetVersion: SCHS048C; PackageVersion: 4040064-4/G; PackageReference: PW16; PackageDescription: 16-Pin Plastic Small Outline, Body 4.40 x 5.00 mm, Pitch 0.65 mm; Supplier 1: Digi-Key; Supplier Part Number 1: CD4056BPW-ND; Supplier 2: Farnell; Supplier Part Number 2: 1753426; Supplier 3: Newark; Supplier Part Number 3: 50R5072; Supplier 4: Newark; Supplier Part Number 4: 02H5124; Supplier 5: Mouser; Supplier Part Number 5: 595-CD4056BPW; Eco-Plan: Green (RoHS & no Sb/Br); Mounting Technology: Surface Mount; Code_JEDEC: MO-153; ComponentLink1Description: Manufacturer URL; ComponentLink1URL: http://www.ti.com/; ComponentLink2Description: Datasheet; ComponentLink2URL: http://www.ti.com/general/docs/lit/getliterature.tsp?genericPartNumber=CD4056B&fileType=pdf; ComponentLink3Description: Package Specification; ComponentLink3URL: http://www.ti.com/lit/ml/mpds361/mpds361.pdf
footprint TI-PW16_N (SOP, 16-Leads, Body 5x4.4mm, Pitch 0.65mm, IPC Medium Density)
footprint TI-PW16_L (SOP, 16-Leads, Body 5x4.4mm, Pitch 0.65mm, IPC High Density)
footprint TI-PW16_M (SOP, 16-Leads, Body 5x4.4mm, Pitch 0.65mm, IPC Low Density)
pins: 1 STROBE (in), 2 BCD2^2 (in), 3 BCD2^1 (in), 4 BCD2^3 (in), 5 BCD2^0 (in), 6 DFIN (in), 7 VEE (power), 8 VSS (power), 9 a (out), 10 b (out), 11 c (out), 12 d (out), 13 e (out), 14 g (out), 15 f (out), 16 VDD (power)

## CD4056BPWE4
designator U?
CMOS BCD-to 7-Segment LCD Decoder / Driver with Strobed-Latch Function, 3 to 18 V, -55 to 125 degC, 16-pin SOP (PW16), Green (RoHS & no Sb/Br); Manufacturer: Texas Instruments; PartNumber: CD4056BPWE4; Rating: Catalog; SubFamily: Discrete Segment LED Driver; Vin(Max)(V): 18; Vin(Min)(V): 3; DatasheetVersion: SCHS048C; PackageVersion: 4040064-4/G; PackageReference: PW16; PackageDescription: 16-Pin Plastic Small Outline, Body 4.40 x 5.00 mm, Pitch 0.65 mm; Supplier 1: Digi-Key; Supplier Part Number 1: CD4056BPWE4-ND; Supplier 2: Newark; Supplier Part Number 2: 33K4918; Supplier 3: Mouser; Supplier Part Number 3: 595-CD4056BPWE4; Eco-Plan: Green (RoHS & no Sb/Br); Mounting Technology: Surface Mount; Code_JEDEC: MO-153; ComponentLink1Description: Manufacturer URL; ComponentLink1URL: http://www.ti.com/; ComponentLink2Description: Datasheet; ComponentLink2URL: http://www.ti.com/general/docs/lit/getliterature.tsp?genericPartNumber=CD4056B&fileType=pdf; ComponentLink3Description: Package Specification; ComponentLink3URL: http://www.ti.com/lit/ml/mpds361/mpds361.pdf
footprint TI-PW16_N (SOP, 16-Leads, Body 5x4.4mm, Pitch 0.65mm, IPC Medium Density)
footprint TI-PW16_L (SOP, 16-Leads, Body 5x4.4mm, Pitch 0.65mm, IPC High Density)
footprint TI-PW16_M (SOP, 16-Leads, Body 5x4.4mm, Pitch 0.65mm, IPC Low Density)
pins: 1 STROBE (in), 2 BCD2^2 (in), 3 BCD2^1 (in), 4 BCD2^3 (in), 5 BCD2^0 (in), 6 DFIN (in), 7 VEE (power), 8 VSS (power), 9 a (out), 10 b (out), 11 c (out), 12 d (out), 13 e (out), 14 g (out), 15 f (out), 16 VDD (power)

## CD4056BPWG4
designator U?
CMOS BCD-to 7-Segment LCD Decoder / Driver with Strobed-Latch Function, 3 to 18 V, -55 to 125 degC, 16-pin SOP (PW16), Green (RoHS & no Sb/Br); Manufacturer: Texas Instruments; PartNumber: CD4056BPWG4; Rating: Catalog; SubFamily: Discrete Segment LED Driver; Vin(Max)(V): 18; Vin(Min)(V): 3; DatasheetVersion: SCHS048C; PackageVersion: 4040064-4/G; PackageReference: PW16; PackageDescription: 16-Pin Plastic Small Outline, Body 4.40 x 5.00 mm, Pitch 0.65 mm; Supplier 1: Digi-Key; Supplier Part Number 1: CD4056BPWG4-ND; Supplier 2: Newark; Supplier Part Number 2: 46M6156; Supplier 3: Mouser; Supplier Part Number 3: 595-CD4056BPWG4; Eco-Plan: Green (RoHS & no Sb/Br); Mounting Technology: Surface Mount; Code_JEDEC: MO-153; ComponentLink1Description: Manufacturer URL; ComponentLink1URL: http://www.ti.com/; ComponentLink2Description: Datasheet; ComponentLink2URL: http://www.ti.com/general/docs/lit/getliterature.tsp?genericPartNumber=CD4056B&fileType=pdf; ComponentLink3Description: Package Specification; ComponentLink3URL: http://www.ti.com/lit/ml/mpds361/mpds361.pdf
footprint TI-PW16_N (SOP, 16-Leads, Body 5x4.4mm, Pitch 0.65mm, IPC Medium Density)
footprint TI-PW16_L (SOP, 16-Leads, Body 5x4.4mm, Pitch 0.65mm, IPC High Density)
footprint TI-PW16_M (SOP, 16-Leads, Body 5x4.4mm, Pitch 0.65mm, IPC Low Density)
pins: 1 STROBE (in), 2 BCD2^2 (in), 3 BCD2^1 (in), 4 BCD2^3 (in), 5 BCD2^0 (in), 6 DFIN (in), 7 VEE (power), 8 VSS (power), 9 a (out), 10 b (out), 11 c (out), 12 d (out), 13 e (out), 14 g (out), 15 f (out), 16 VDD (power)

## CD4056BPWR
designator U?
CMOS BCD-to 7-Segment LCD Decoder / Driver with Strobed-Latch Function, 3 to 18 V, -55 to 125 degC, 16-pin SOP (PW16), Green (RoHS & no Sb/Br); Manufacturer: Texas Instruments; PartNumber: CD4056BPWR; Rating: Catalog; SubFamily: Discrete Segment LED Driver; Vin(Max)(V): 18; Vin(Min)(V): 3; DatasheetVersion: SCHS048C; PackageVersion: 4040064-4/G; PackageReference: PW16; PackageDescription: 16-Pin Plastic Small Outline, Body 4.40 x 5.00 mm, Pitch 0.65 mm; Supplier 1: Digi-Key; Supplier Part Number 1: CD4056BPWR-ND; Supplier 2: Mouser; Supplier Part Number 2: 595-CD4056BPWR; Eco-Plan: Green (RoHS & no Sb/Br); Mounting Technology: Surface Mount; Code_JEDEC: MO-153; ComponentLink1Description: Manufacturer URL; ComponentLink1URL: http://www.ti.com/; ComponentLink2Description: Datasheet; ComponentLink2URL: http://www.ti.com/general/docs/lit/getliterature.tsp?genericPartNumber=CD4056B&fileType=pdf; ComponentLink3Description: Package Specification; ComponentLink3URL: http://www.ti.com/lit/ml/mpds361/mpds361.pdf
footprint TI-PW16_N (SOP, 16-Leads, Body 5x4.4mm, Pitch 0.65mm, IPC Medium Density)
footprint TI-PW16_L (SOP, 16-Leads, Body 5x4.4mm, Pitch 0.65mm, IPC High Density)
footprint TI-PW16_M (SOP, 16-Leads, Body 5x4.4mm, Pitch 0.65mm, IPC Low Density)
pins: 1 STROBE (in), 2 BCD2^2 (in), 3 BCD2^1 (in), 4 BCD2^3 (in), 5 BCD2^0 (in), 6 DFIN (in), 7 VEE (power), 8 VSS (power), 9 a (out), 10 b (out), 11 c (out), 12 d (out), 13 e (out), 14 g (out), 15 f (out), 16 VDD (power)

## CD4056BPWRE4
designator U?
CMOS BCD-to 7-Segment LCD Decoder / Driver with Strobed-Latch Function, 3 to 18 V, -55 to 125 degC, 16-pin SOP (PW16), Green (RoHS & no Sb/Br); Manufacturer: Texas Instruments; PartNumber: CD4056BPWRE4; Rating: Catalog; SubFamily: Discrete Segment LED Driver; Vin(Max)(V): 18; Vin(Min)(V): 3; DatasheetVersion: SCHS048C; PackageVersion: 4040064-4/G; PackageReference: PW16; PackageDescription: 16-Pin Plastic Small Outline, Body 4.40 x 5.00 mm, Pitch 0.65 mm; Supplier 1: Digi-Key; Supplier Part Number 1: CD4056BPWRE4-ND; Supplier 2: Mouser; Supplier Part Number 2: 595-CD4056BPWRE4; Eco-Plan: Green (RoHS & no Sb/Br); Mounting Technology: Surface Mount; Code_JEDEC: MO-153; ComponentLink1Description: Manufacturer URL; ComponentLink1URL: http://www.ti.com/; ComponentLink2Description: Datasheet; ComponentLink2URL: http://www.ti.com/general/docs/lit/getliterature.tsp?genericPartNumber=CD4056B&fileType=pdf; ComponentLink3Description: Package Specification; ComponentLink3URL: http://www.ti.com/lit/ml/mpds361/mpds361.pdf
footprint TI-PW16_N (SOP, 16-Leads, Body 5x4.4mm, Pitch 0.65mm, IPC Medium Density)
footprint TI-PW16_L (SOP, 16-Leads, Body 5x4.4mm, Pitch 0.65mm, IPC High Density)
footprint TI-PW16_M (SOP, 16-Leads, Body 5x4.4mm, Pitch 0.65mm, IPC Low Density)
pins: 1 STROBE (in), 2 BCD2^2 (in), 3 BCD2^1 (in), 4 BCD2^3 (in), 5 BCD2^0 (in), 6 DFIN (in), 7 VEE (power), 8 VSS (power), 9 a (out), 10 b (out), 11 c (out), 12 d (out), 13 e (out), 14 g (out), 15 f (out), 16 VDD (power)

## CD4056BPWRG4
designator U?
CMOS BCD-to 7-Segment LCD Decoder / Driver with Strobed-Latch Function, 3 to 18 V, -55 to 125 degC, 16-pin SOP (PW16), Green (RoHS & no Sb/Br); Manufacturer: Texas Instruments; PartNumber: CD4056BPWRG4; Rating: Catalog; SubFamily: Discrete Segment LED Driver; Vin(Max)(V): 18; Vin(Min)(V): 3; DatasheetVersion: SCHS048C; PackageVersion: 4040064-4/G; PackageReference: PW16; PackageDescription: 16-Pin Plastic Small Outline, Body 4.40 x 5.00 mm, Pitch 0.65 mm; Supplier 1: Digi-Key; Supplier Part Number 1: CD4056BPWRG4-ND; Supplier 2: Mouser; Supplier Part Number 2: 595-CD4056BPWRG4; Eco-Plan: Green (RoHS & no Sb/Br); Mounting Technology: Surface Mount; Code_JEDEC: MO-153; ComponentLink1Description: Manufacturer URL; ComponentLink1URL: http://www.ti.com/; ComponentLink2Description: Datasheet; ComponentLink2URL: http://www.ti.com/general/docs/lit/getliterature.tsp?genericPartNumber=CD4056B&fileType=pdf; ComponentLink3Description: Package Specification; ComponentLink3URL: http://www.ti.com/lit/ml/mpds361/mpds361.pdf
footprint TI-PW16_N (SOP, 16-Leads, Body 5x4.4mm, Pitch 0.65mm, IPC Medium Density)
footprint TI-PW16_L (SOP, 16-Leads, Body 5x4.4mm, Pitch 0.65mm, IPC High Density)
footprint TI-PW16_M (SOP, 16-Leads, Body 5x4.4mm, Pitch 0.65mm, IPC Low Density)
pins: 1 STROBE (in), 2 BCD2^2 (in), 3 BCD2^1 (in), 4 BCD2^3 (in), 5 BCD2^0 (in), 6 DFIN (in), 7 VEE (power), 8 VSS (power), 9 a (out), 10 b (out), 11 c (out), 12 d (out), 13 e (out), 14 g (out), 15 f (out), 16 VDD (power)

## CD4511BE
designator U?
CMOS BCD-to-7-Segment LED Latch / Decoder / Driver, 3 to 18 V, -55 to 125 degC, 16-pin DIP (N16), Pb-Free (RoHS); Manufacturer: Texas Instruments; PartNumber: CD4511BE; Rating: Military; SubFamily: Discrete Segment LED Driver; Vin(Max)(V): 18; Vin(Min)(V): 3; DatasheetVersion: SCHS072B; PackageVersion: 4040049/E; PackageReference: N16; PackageDescription: 16-Pin Plastic In-Line, Body 19.305 x 6.35 mm, Pitch 2.54 mm; Supplier 1: Digi-Key; Supplier Part Number 1: 296-2072-5-ND; Supplier 2: Farnell; Supplier Part Number 2: 1106122; Supplier 3: Newark; Supplier Part Number 3: 60K5141; Supplier 4: Mouser; Supplier Part Number 4: 595-CD4511BE; Eco-Plan: Pb-Free (RoHS); Mounting Technology: Through Hole; Code_JEDEC: MS-001; ComponentLink1Description: Manufacturer URL; ComponentLink1URL: http://www.ti.com/; ComponentLink2Description: Datasheet; ComponentLink2URL: http://www.ti.com/general/docs/lit/getliterature.tsp?genericPartNumber=CD4511B&fileType=pdf; ComponentLink3Description: Package Specification; ComponentLink3URL: http://www.ti.com/litv/pdf/mpdi002c
footprint TI-N16 (DIP, 16-Leads, Body 19.305x6.35 mm, Pitch 2.54 mm)
pins: 1 B (in), 2 C (in), 3 ~{LT} (in), 4 ~{BL} (in), 5 LE/~{STROBE} (in), 6 D (in), 7 A (in), 8 VSS (power), 9 e (out), 10 d (out), 11 c (out), 12 b (out), 13 a (out), 14 g (out), 15 f (out), 16 VDD (power)

## CD4511BEE4
designator U?
CMOS BCD-to-7-Segment LED Latch / Decoder / Driver, 3 to 18 V, -55 to 125 degC, 16-pin DIP (N16), Pb-Free (RoHS); Manufacturer: Texas Instruments; PartNumber: CD4511BEE4; Rating: Military; SubFamily: Discrete Segment LED Driver; Vin(Max)(V): 18; Vin(Min)(V): 3; DatasheetVersion: SCHS072B; PackageVersion: 4040049/E; PackageReference: N16; PackageDescription: 16-Pin Plastic In-Line, Body 19.305 x 6.35 mm, Pitch 2.54 mm; Supplier 1: Digi-Key; Supplier Part Number 1: CD4511BEE4-ND; Supplier 2: Newark; Supplier Part Number 2: 88K3486; Supplier 3: Mouser; Supplier Part Number 3: 595-CD4511BEE4; Eco-Plan: Pb-Free (RoHS); Mounting Technology: Through Hole; Code_JEDEC: MS-001; ComponentLink1Description: Manufacturer URL; ComponentLink1URL: http://www.ti.com/; ComponentLink2Description: Datasheet; ComponentLink2URL: http://www.ti.com/general/docs/lit/getliterature.tsp?genericPartNumber=CD4511B&fileType=pdf; ComponentLink3Description: Package Specification; ComponentLink3URL: http://www.ti.com/litv/pdf/mpdi002c
footprint TI-N16 (DIP, 16-Leads, Body 19.305x6.35 mm, Pitch 2.54 mm)
pins: 1 B (in), 2 C (in), 3 ~{LT} (in), 4 ~{BL} (in), 5 LE/~{STROBE} (in), 6 D (in), 7 A (in), 8 VSS (power), 9 e (out), 10 d (out), 11 c (out), 12 b (out), 13 a (out), 14 g (out), 15 f (out), 16 VDD (power)

## CD4511BF
designator U?
CMOS BCD-to-7-Segment LED Latch / Decoder / Driver, 3 to 18 V, -55 to 125 degC, 16-pin DIP (J16); Manufacturer: Texas Instruments; PartNumber: CD4511BF; Rating: Military; SubFamily: Discrete Segment LED Driver; Vin(Max)(V): 18; Vin(Min)(V): 3; DatasheetVersion: SCHS072B; PackageVersion: 4040083/F; PackageReference: J16; PackageDescription: 16-pin, Ceramic, Glass In-Line, Row Spacing 7.62 mm, Pitch 2.54 mm; Mounting Technology: Through Hole; ComponentLink1Description: Manufacturer URL; ComponentLink1URL: http://www.ti.com/; ComponentLink2Description: Datasheet; ComponentLink2URL: http://www.ti.com/general/docs/lit/getliterature.tsp?genericPartNumber=CD4511B&fileType=pdf; ComponentLink3Description: Package Specification; ComponentLink3URL: http://www.ti.com/lit/ds/symlink/uc1543.pdf
footprint TI-J16 (DIP, 16-Leads, Body 21.34x6.92 mm, Pitch 2.54 mm)
pins: 1 B (in), 2 C (in), 3 ~{LT} (in), 4 ~{BL} (in), 5 LE/~{STROBE} (in), 6 D (in), 7 A (in), 8 VSS (power), 9 e (out), 10 d (out), 11 c (out), 12 b (out), 13 a (out), 14 g (out), 15 f (out), 16 VDD (power)

## CD4511BF3A
designator U?
CMOS BCD-to-7-Segment LED Latch / Decoder / Driver, 3 to 18 V, -55 to 125 degC, 16-pin DIP (J16); Manufacturer: Texas Instruments; PartNumber: CD4511BF3A; Rating: Military; SubFamily: Discrete Segment LED Driver; Vin(Max)(V): 18; Vin(Min)(V): 3; DatasheetVersion: SCHS072B; PackageVersion: 4040083/F; PackageReference: J16; PackageDescription: 16-pin, Ceramic, Glass In-Line, Row Spacing 7.62 mm, Pitch 2.54 mm; Mounting Technology: Through Hole; ComponentLink1Description: Manufacturer URL; ComponentLink1URL: http://www.ti.com/; ComponentLink2Description: Datasheet; ComponentLink2URL: http://www.ti.com/general/docs/lit/getliterature.tsp?genericPartNumber=CD4511B&fileType=pdf; ComponentLink3Description: Package Specification; ComponentLink3URL: http://www.ti.com/lit/ds/symlink/uc1543.pdf
footprint TI-J16 (DIP, 16-Leads, Body 21.34x6.92 mm, Pitch 2.54 mm)
pins: 1 B (in), 2 C (in), 3 ~{LT} (in), 4 ~{BL} (in), 5 LE/~{STROBE} (in), 6 D (in), 7 A (in), 8 VSS (power), 9 e (out), 10 d (out), 11 c (out), 12 b (out), 13 a (out), 14 g (out), 15 f (out), 16 VDD (power)

## CD4511BNSR
designator U?
CMOS BCD-to-7-Segment LED Latch / Decoder / Driver, 3 to 18 V, -55 to 125 degC, 16-pin SOP (NS16), Green (RoHS & no Sb/Br); Manufacturer: Texas Instruments; PartNumber: CD4511BNSR; Rating: Military; SubFamily: Discrete Segment LED Driver; Vin(Max)(V): 18; Vin(Min)(V): 3; DatasheetVersion: SCHS072B; PackageVersion: 4040062/C; PackageReference: NS16; PackageDescription: 16-Pin Plastic Small Outline, Body 10.20 x 5.30 mm, Pitch 1.27 mm; Supplier 1: Digi-Key; Supplier Part Number 1: 296-3528-2-ND; Supplier 2: Digi-Key; Supplier Part Number 2: 296-3528-1-ND; Supplier 3: Digi-Key; Supplier Part Number 3: 296-3528-6-ND; Supplier 4: Newark; Supplier Part Number 4: 74C8155; Supplier 5: Mouser; Supplier Part Number 5: 595-CD4511BNSR; Eco-Plan: Green (RoHS & no Sb/Br); Mounting Technology: Surface Mount; ComponentLink1Description: Manufacturer URL; ComponentLink1URL: http://www.ti.com/; ComponentLink2Description: Datasheet; ComponentLink2URL: http://www.ti.com/general/docs/lit/getliterature.tsp?genericPartNumber=CD4511B&fileType=pdf; ComponentLink3Description: Package Specification; ComponentLink3URL: http://www.ti.com/litv/pdf/msop002a
footprint TI-NS16_N (SOP, 16-Leads, Body 10.2x5.3mm, Pitch 1.27mm, IPC Medium Density)
footprint TI-NS16_L (SOP, 16-Leads, Body 10.2x5.3mm, Pitch 1.27mm, IPC High Density)
footprint TI-NS16_M (SOP, 16-Leads, Body 10.2x5.3mm, Pitch 1.27mm, IPC Low Density)
pins: 1 B (in), 2 C (in), 3 ~{LT} (in), 4 ~{BL} (in), 5 LE/~{STROBE} (in), 6 D (in), 7 A (in), 8 VSS (power), 9 e (out), 10 d (out), 11 c (out), 12 b (out), 13 a (out), 14 g (out), 15 f (out), 16 VDD (power)

## CD4511BNSRE4
designator U?
CMOS BCD-to-7-Segment LED Latch / Decoder / Driver, 3 to 18 V, -55 to 125 degC, 16-pin SOP (NS16), Green (RoHS & no Sb/Br); Manufacturer: Texas Instruments; PartNumber: CD4511BNSRE4; Rating: Military; SubFamily: Discrete Segment LED Driver; Vin(Max)(V): 18; Vin(Min)(V): 3; DatasheetVersion: SCHS072B; PackageVersion: 4040062/C; PackageReference: NS16; PackageDescription: 16-Pin Plastic Small Outline, Body 10.20 x 5.30 mm, Pitch 1.27 mm; Supplier 1: Digi-Key; Supplier Part Number 1: CD4511BNSRE4-ND; Supplier 2: Newark; Supplier Part Number 2: 36K8835; Supplier 3: Mouser; Supplier Part Number 3: 595-CD4511BNSRE4; Eco-Plan: Green (RoHS & no Sb/Br); Mounting Technology: Surface Mount; ComponentLink1Description: Manufacturer URL; ComponentLink1URL: http://www.ti.com/; ComponentLink2Description: Datasheet; ComponentLink2URL: http://www.ti.com/general/docs/lit/getliterature.tsp?genericPartNumber=CD4511B&fileType=pdf; ComponentLink3Description: Package Specification; ComponentLink3URL: http://www.ti.com/litv/pdf/msop002a
footprint TI-NS16_N (SOP, 16-Leads, Body 10.2x5.3mm, Pitch 1.27mm, IPC Medium Density)
footprint TI-NS16_L (SOP, 16-Leads, Body 10.2x5.3mm, Pitch 1.27mm, IPC High Density)
footprint TI-NS16_M (SOP, 16-Leads, Body 10.2x5.3mm, Pitch 1.27mm, IPC Low Density)
pins: 1 B (in), 2 C (in), 3 ~{LT} (in), 4 ~{BL} (in), 5 LE/~{STROBE} (in), 6 D (in), 7 A (in), 8 VSS (power), 9 e (out), 10 d (out), 11 c (out), 12 b (out), 13 a (out), 14 g (out), 15 f (out), 16 VDD (power)

## CD4511BNSRG4
designator U?
CMOS BCD-to-7-Segment LED Latch / Decoder / Driver, 3 to 18 V, -55 to 125 degC, 16-pin SOP (NS16), Green (RoHS & no Sb/Br); Manufacturer: Texas Instruments; PartNumber: CD4511BNSRG4; Rating: Military; SubFamily: Discrete Segment LED Driver; Vin(Max)(V): 18; Vin(Min)(V): 3; DatasheetVersion: SCHS072B; PackageVersion: 4040062/C; PackageReference: NS16; PackageDescription: 16-Pin Plastic Small Outline, Body 10.20 x 5.30 mm, Pitch 1.27 mm; Supplier 1: Digi-Key; Supplier Part Number 1: CD4511BNSRG4-ND; Supplier 2: Newark; Supplier Part Number 2: 46M6239; Supplier 3: Mouser; Supplier Part Number 3: 595-CD4511BNSRG4; Eco-Plan: Green (RoHS & no Sb/Br); Mounting Technology: Surface Mount; ComponentLink1Description: Manufacturer URL; ComponentLink1URL: http://www.ti.com/; ComponentLink2Description: Datasheet; ComponentLink2URL: http://www.ti.com/general/docs/lit/getliterature.tsp?genericPartNumber=CD4511B&fileType=pdf; ComponentLink3Description: Package Specification; ComponentLink3URL: http://www.ti.com/litv/pdf/msop002a
footprint TI-NS16_N (SOP, 16-Leads, Body 10.2x5.3mm, Pitch 1.27mm, IPC Medium Density)
footprint TI-NS16_L (SOP, 16-Leads, Body 10.2x5.3mm, Pitch 1.27mm, IPC High Density)
footprint TI-NS16_M (SOP, 16-Leads, Body 10.2x5.3mm, Pitch 1.27mm, IPC Low Density)
pins: 1 B (in), 2 C (in), 3 ~{LT} (in), 4 ~{BL} (in), 5 LE/~{STROBE} (in), 6 D (in), 7 A (in), 8 VSS (power), 9 e (out), 10 d (out), 11 c (out), 12 b (out), 13 a (out), 14 g (out), 15 f (out), 16 VDD (power)

## CD4511BPW
designator U?
CMOS BCD-to-7-Segment LED Latch / Decoder / Driver, 3 to 18 V, -55 to 125 degC, 16-pin SOP (PW16), Green (RoHS & no Sb/Br); Manufacturer: Texas Instruments; PartNumber: CD4511BPW; Rating: Military; SubFamily: Discrete Segment LED Driver; Vin(Max)(V): 18; Vin(Min)(V): 3; DatasheetVersion: SCHS072B; PackageVersion: 4040064-4/G; PackageReference: PW16; PackageDescription: 16-Pin Plastic Small Outline, Body 4.40 x 5.00 mm, Pitch 0.65 mm; Supplier 1: Digi-Key; Supplier Part Number 1: CD4511BPW-ND; Supplier 2: Farnell; Supplier Part Number 2: 1752812; Supplier 3: Newark; Supplier Part Number 3: 50R5110; Supplier 4: Newark; Supplier Part Number 4: 02H5154; Supplier 5: Mouser; Supplier Part Number 5: 595-CD4511BPW; Eco-Plan: Green (RoHS & no Sb/Br); Mounting Technology: Surface Mount; Code_JEDEC: MO-153; ComponentLink1Description: Manufacturer URL; ComponentLink1URL: http://www.ti.com/; ComponentLink2Description: Datasheet; ComponentLink2URL: http://www.ti.com/general/docs/lit/getliterature.tsp?genericPartNumber=CD4511B&fileType=pdf; ComponentLink3Description: Package Specification; ComponentLink3URL: http://www.ti.com/lit/ml/mpds361/mpds361.pdf
footprint TI-PW16_N (SOP, 16-Leads, Body 5x4.4mm, Pitch 0.65mm, IPC Medium Density)
footprint TI-PW16_L (SOP, 16-Leads, Body 5x4.4mm, Pitch 0.65mm, IPC High Density)
footprint TI-PW16_M (SOP, 16-Leads, Body 5x4.4mm, Pitch 0.65mm, IPC Low Density)
pins: 1 B (in), 2 C (in), 3 ~{LT} (in), 4 ~{BL} (in), 5 LE/~{STROBE} (in), 6 D (in), 7 A (in), 8 VSS (power), 9 e (out), 10 d (out), 11 c (out), 12 b (out), 13 a (out), 14 g (out), 15 f (out), 16 VDD (power)

## CD4511BPWE4
designator U?
CMOS BCD-to-7-Segment LED Latch / Decoder / Driver, 3 to 18 V, -55 to 125 degC, 16-pin SOP (PW16), Green (RoHS & no Sb/Br); Manufacturer: Texas Instruments; PartNumber: CD4511BPWE4; Rating: Military; SubFamily: Discrete Segment LED Driver; Vin(Max)(V): 18; Vin(Min)(V): 3; DatasheetVersion: SCHS072B; PackageVersion: 4040064-4/G; PackageReference: PW16; PackageDescription: 16-Pin Plastic Small Outline, Body 4.40 x 5.00 mm, Pitch 0.65 mm; Supplier 1: Digi-Key; Supplier Part Number 1: CD4511BPWE4-ND; Supplier 2: Newark; Supplier Part Number 2: 33K4974; Supplier 3: Mouser; Supplier Part Number 3: 595-CD4511BPWE4; Eco-Plan: Green (RoHS & no Sb/Br); Mounting Technology: Surface Mount; Code_JEDEC: MO-153; ComponentLink1Description: Manufacturer URL; ComponentLink1URL: http://www.ti.com/; ComponentLink2Description: Datasheet; ComponentLink2URL: http://www.ti.com/general/docs/lit/getliterature.tsp?genericPartNumber=CD4511B&fileType=pdf; ComponentLink3Description: Package Specification; ComponentLink3URL: http://www.ti.com/lit/ml/mpds361/mpds361.pdf
footprint TI-PW16_N (SOP, 16-Leads, Body 5x4.4mm, Pitch 0.65mm, IPC Medium Density)
footprint TI-PW16_L (SOP, 16-Leads, Body 5x4.4mm, Pitch 0.65mm, IPC High Density)
footprint TI-PW16_M (SOP, 16-Leads, Body 5x4.4mm, Pitch 0.65mm, IPC Low Density)
pins: 1 B (in), 2 C (in), 3 ~{LT} (in), 4 ~{BL} (in), 5 LE/~{STROBE} (in), 6 D (in), 7 A (in), 8 VSS (power), 9 e (out), 10 d (out), 11 c (out), 12 b (out), 13 a (out), 14 g (out), 15 f (out), 16 VDD (power)

## CD4511BPWG4
designator U?
CMOS BCD-to-7-Segment LED Latch / Decoder / Driver, 3 to 18 V, -55 to 125 degC, 16-pin SOP (PW16), Green (RoHS & no Sb/Br); Manufacturer: Texas Instruments; PartNumber: CD4511BPWG4; Rating: Military; SubFamily: Discrete Segment LED Driver; Vin(Max)(V): 18; Vin(Min)(V): 3; DatasheetVersion: SCHS072B; PackageVersion: 4040064-4/G; PackageReference: PW16; PackageDescription: 16-Pin Plastic Small Outline, Body 4.40 x 5.00 mm, Pitch 0.65 mm; Supplier 1: Digi-Key; Supplier Part Number 1: CD4511BPWG4-ND; Supplier 2: Newark; Supplier Part Number 2: 46M6240; Supplier 3: Mouser; Supplier Part Number 3: 595-CD4511BPWG4; Eco-Plan: Green (RoHS & no Sb/Br); Mounting Technology: Surface Mount; Code_JEDEC: MO-153; ComponentLink1Description: Manufacturer URL; ComponentLink1URL: http://www.ti.com/; ComponentLink2Description: Datasheet; ComponentLink2URL: http://www.ti.com/general/docs/lit/getliterature.tsp?genericPartNumber=CD4511B&fileType=pdf; ComponentLink3Description: Package Specification; ComponentLink3URL: http://www.ti.com/lit/ml/mpds361/mpds361.pdf
footprint TI-PW16_N (SOP, 16-Leads, Body 5x4.4mm, Pitch 0.65mm, IPC Medium Density)
footprint TI-PW16_L (SOP, 16-Leads, Body 5x4.4mm, Pitch 0.65mm, IPC High Density)
footprint TI-PW16_M (SOP, 16-Leads, Body 5x4.4mm, Pitch 0.65mm, IPC Low Density)
pins: 1 B (in), 2 C (in), 3 ~{LT} (in), 4 ~{BL} (in), 5 LE/~{STROBE} (in), 6 D (in), 7 A (in), 8 VSS (power), 9 e (out), 10 d (out), 11 c (out), 12 b (out), 13 a (out), 14 g (out), 15 f (out), 16 VDD (power)

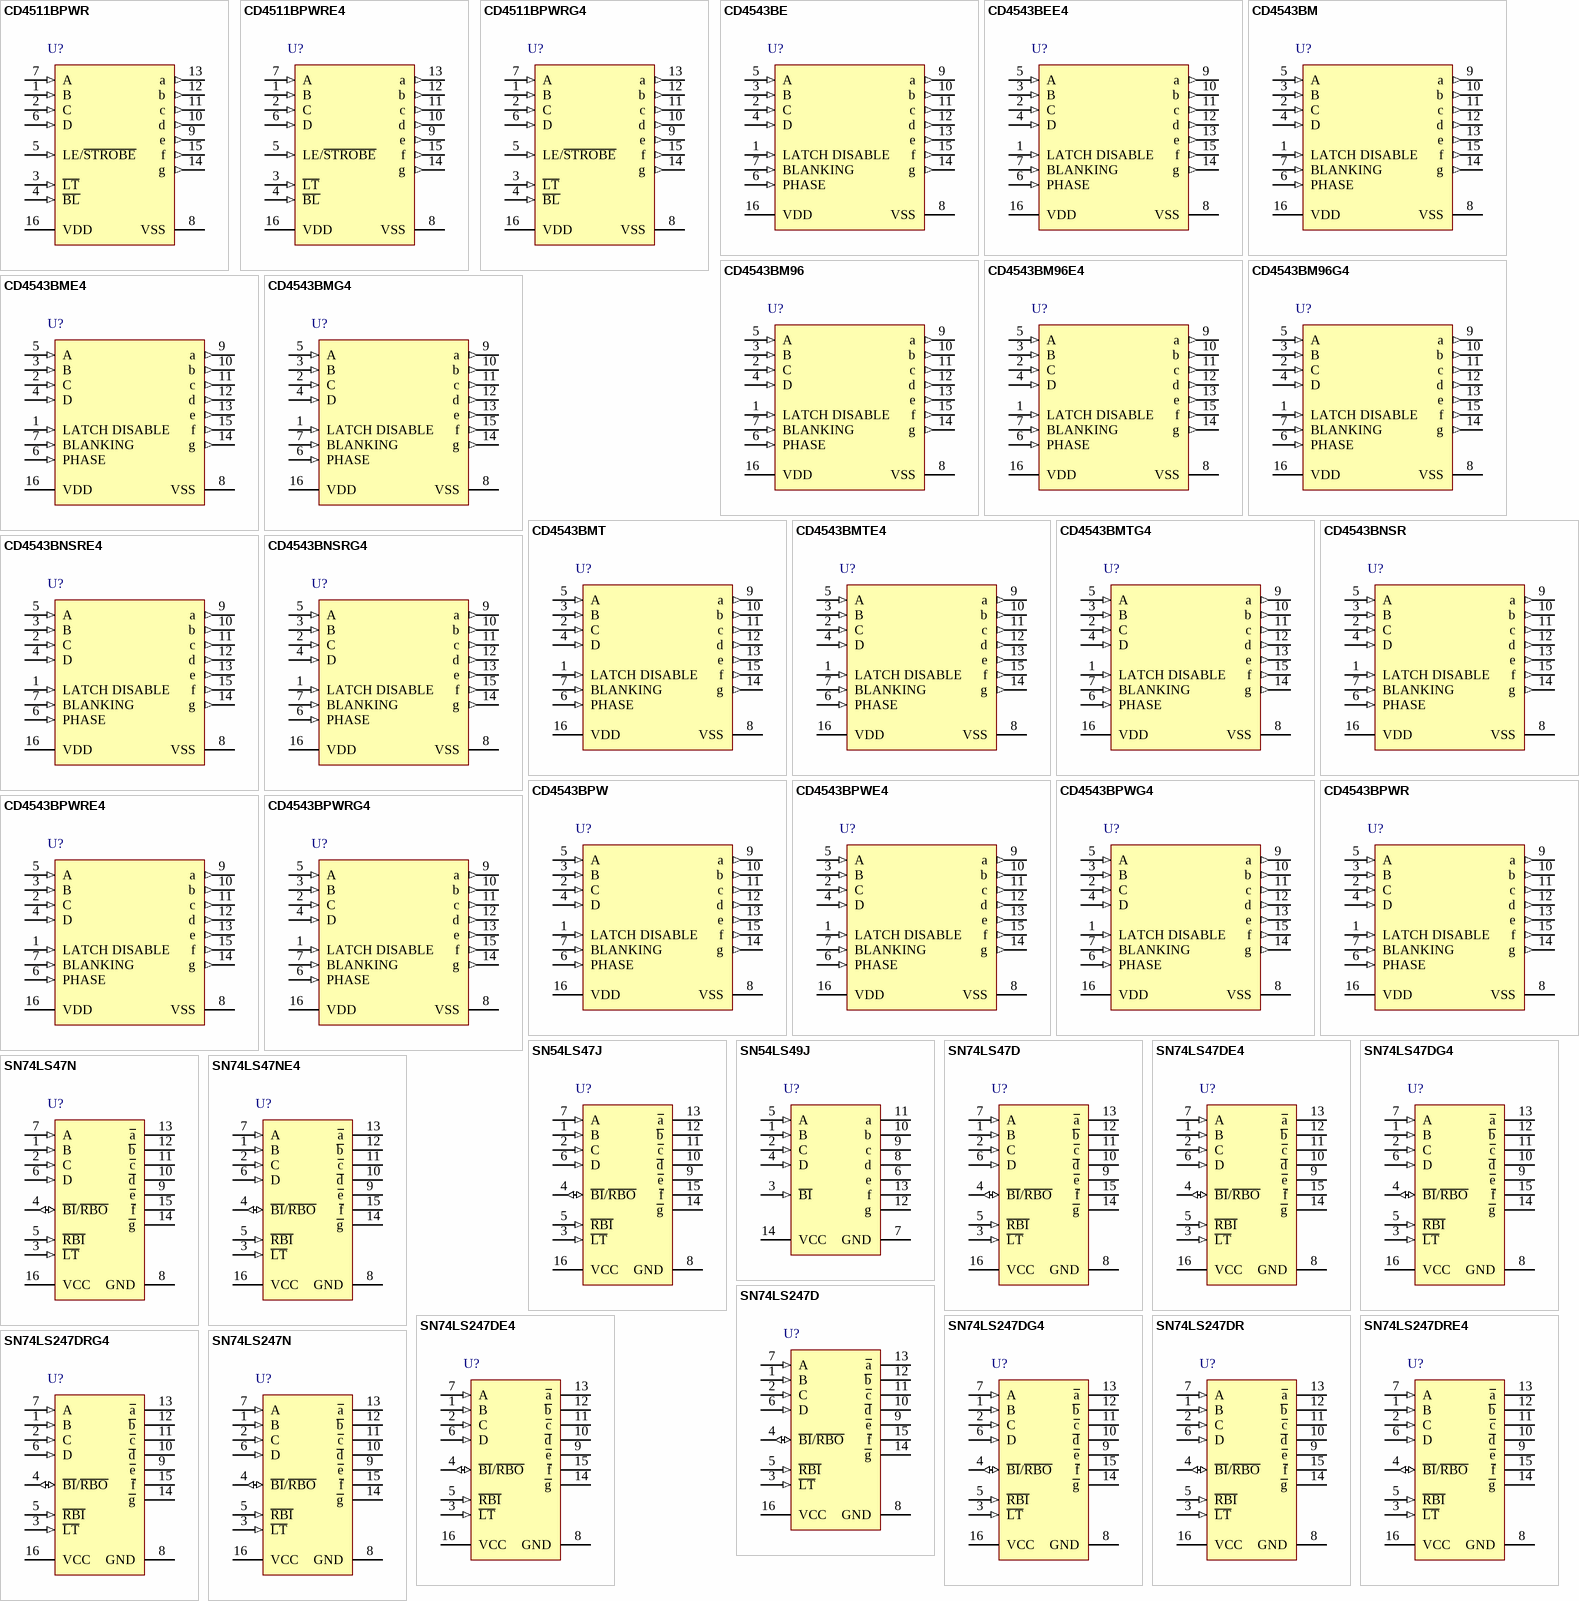
[diagram p2: symbols CD4511BPWR to SN74LS247N]